# Altium footprint library Components.PcbLib: 27 footprints (part 2 of 2)
Each footprint in its own frame and in the unit in brackets; x right, y up, seen from the top. Pads: shape width x height; smd on the part's side, far side on the other; paste and mask are expansions set on the pad; w line width, h text height; cw(c..) or ccw(c..) is an arc to the next point about the centre after c.
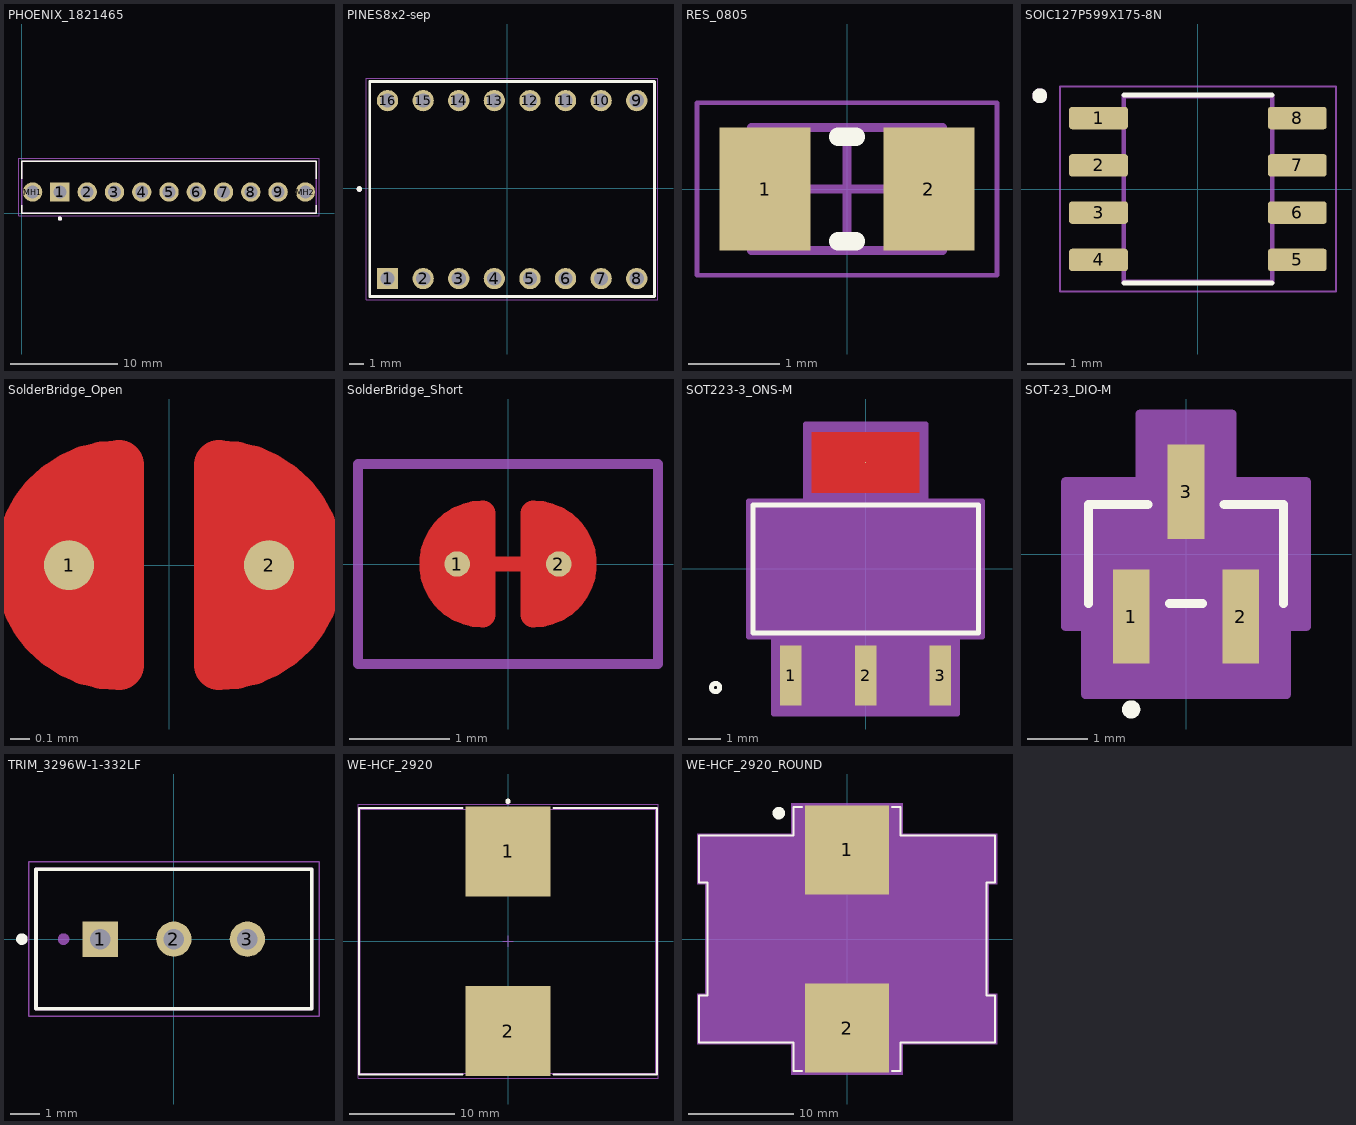
[diagram p1: the footprints below, top view; thin cyan lines are the x and y axes]

## PHOENIX_1821465 [mm]
pads (11):
  rect 1.8x1.8 / inner round 1.8 / far side rect 1.8x1.8 hole 1.2: 1(3.56,1.97)
  round 1.8 hole 1.2: 2(6.1,1.97) 3(8.64,1.97) 4(11.18,1.97) 5(13.72,1.97) 6(16.26,1.97) 7(18.8,1.97) 8(21.34,1.97) 9(23.88,1.97) MH1(1.02,1.97) MH2(26.42,1.97)
Top Overlay:
  circle w0.2: c3.56,-0.5 r0.1
  lines w0.127: 0,0.75 0,0 27.44,0 27.44,0.75 ; 0,3.19 0,4.85 27.44,4.85 27.44,3.19
Mechanical 13:
  circle w0.2: c3.56,-0.5 r0.1
  lines w0.127: 0,0 0,4.85 27.44,4.85 27.44,0 0,0
Mechanical 15:
  lines w0.05: -0.25,-0.25 27.69,-0.25 27.69,5.1 -0.25,5.1 -0.25,-0.25
3D body "1821465.step": height 7.1, standoff -2, extent 0.05,-0.025 27.5,4.825

## PINES8x2-sep [mil]
pads (16):
  rect 60x60 / inner round 60 / far side rect 60x60 hole 40: 1(-335.98,-253.15)
  round 60 hole 40: 2(-235.98,-253.15) 3(-135.98,-253.15) 4(-35.98,-253.15) 5(64.02,-253.15) 6(164.02,-253.15) 7(264.02,-253.15) 8(364.02,-253.15) 9(364.02,246.85) 10(264.02,246.85) 11(164.02,246.85) 12(64.02,246.85) 13(-35.98,246.85) 14(-135.98,246.85) 15(-235.98,246.85) 16(-335.98,246.85)
Top Overlay:
  circle w7.87: c-415.12,-1.48 r3.94
  lines w7.87: -385.98,-303.15 -385.98,300.2 414.02,300.2 414.02,-303.15 -385.98,-303.15
Mechanical 13:
  lines w3.94: -385.98,-303.15 414.02,-303.15 414.02,301.18 -385.98,301.18 -385.98,-303.15
  lines w7.87: -414.83,2.45 ccw(c-415.12,-1.48) -411.18,-1.48
Mechanical 15:
  lines w1.97: -395.83,-312.99 423.86,-312.99 423.86,310.04 -395.83,310.04 -395.83,-312.99
3D body "61300811821+%28rev1%29.stp": height 336.61, standoff -120.53, extent -394.09,198.82 425.59,297.24
3D body "61300811821+%28rev1%29.stp": height 336.61, standoff -120.53, extent -394.09,-301.18 425.59,-202.76
3D body "A4988 STEPPER MOTOR DRIVER CARRIER--3DModel-STEP-56544.STEP": height 570.58, standoff 102.58, extent -400,-300 400,300

## RES_0805 [mm] "Chip Resistor, 2-Leads, Body 2.00x1.25mm, IPC Medium Density"
height 0.6
pads (2):
  rect 1x1.35 smd: 1(-0.9,0) 2(0.9,0)
Top Overlay:
  lines w0.2: -0.1,-0.575 0.1,-0.575 ; -0.1,0.575 0.1,0.575
Top Courtyard:
  lines w0.05: -1.65,-0.95 -1.65,0.95 1.65,0.95 1.65,-0.95 -1.65,-0.95
  lines w0.1: -0.5,0 0.5,0 ; 0,-0.5 0,0.5
Top Assembly:
  lines w0.1: -1.05,-0.675 -1.05,0.675 1.05,0.675 1.05,-0.675 -1.05,-0.675
3D body: height 0.6, standoff 0, extent -0.7,-0.675 0.7,0.675
3D body: height 0.6, standoff 0, extent -1.05,-0.675 -0.7,0.675
3D body: height 0.6, standoff 0, extent 0.7,-0.675 1.05,0.675

## SOIC127P599X175-8N [mm]
pads (8):
  rrect25% 1.58x0.6 smd: 1(-2.67,1.905) 2(-2.67,0.635) 3(-2.67,-0.635) 4(-2.67,-1.905) 5(2.67,-1.905) 6(2.67,-0.635) 7(2.67,0.635) 8(2.67,1.905)
Top Overlay:
  circle w0.2: c-4.25,2.505 r0.1
  lines w0.127: -1.995,-2.525 1.995,-2.525 ; -1.995,2.525 1.995,2.525
Mechanical 13:
  circle w0.2: c-4.25,2.505 r0.1
  lines w0.127: -1.995,-2.5 -1.995,2.5 1.995,2.5 1.995,-2.5 -1.995,-2.5
Mechanical 15:
  lines w0.05: -3.71,-2.75 -3.71,2.75 3.71,2.75 3.71,-2.75 -3.71,-2.75
3D body "step_temp.STEP": height 1.75, standoff 0, extent -3,-2.45 3,2.45

## SolderBridge_Open [mil]
pads (2):
  round 10 smd mask+0: 1(-20,0) 2(20,0)
Top Layer:
  region: 10,20 21.96,18.4 29.53,10.83 29.53,-9.84 19.37,-20 10,-20
  region: -9.02,-19.51 -20.97,-17.9 -28.54,-10.33 -28.54,10.33 -18.39,20.49 -9.02,20.49
  lines w10: -10,-20 cw(c-10,0) -10,20 -10,-20 ; 10,-20 ccw(c10,0) 10,20 10,-20
Top Solder:
  circle w29: c-10,0 r11
  circle w29: c10,0 r11
  lines w10: -9.02,20.49 9.51,20.49
  lines w11: -10,-20 10,-20

## SolderBridge_Short [mil]
pads (2):
  round 10 smd mask+0: 1(-20,0) 2(20,0)
Top Layer:
  region: 10,20 21.96,18.4 29.53,10.83 29.53,-9.84 19.37,-20 10,-20
  region: -9.02,-19.51 -20.97,-17.9 -28.54,-10.33 -28.54,10.33 -18.39,20.49 -9.02,20.49
  lines w6: -10,0 10,0
  lines w10: -10,-20 cw(c-10,0) -10,20 -10,-20 ; 10,-20 ccw(c10,0) 10,20 10,-20
Top Solder:
  circle w29: c-10,0 r15
  circle w29: c10,0 r15
  lines w10: -9.02,24.49 9.51,24.49
  lines w11: -10,-24 10,-24
Top Courtyard:
  lines w3.94: -59.06,-39.37 59.06,-39.37 59.06,39.37 -59.06,39.37 -59.06,-39.37
Bottom Courtyard:
  lines w3.94: -59.06,-39.37 59.06,-39.37 59.06,39.37 -59.06,39.37 -59.06,-39.37

## SOT223-3_ONS-M [mil]
pads (4):
  rect 26x73 smd paste+0 mask+0: 1(-90.5,-129) 2(0,-129) 3(90.5,-129)
  round 1 smd: 4(0,129)
Top Layer:
  region: 65,92.5 65,165.5 -65,165.5 -65,92.5
Top Overlay:
  circle w6: c-181.5,-143.5 r5
  lines w6: -136.5,-77.5 -136.5,77.5 136.5,77.5 136.5,-77.5 -136.5,-77.5
Top Paste:
  region: 65,92.5 65,165.5 -65,165.5 -65,92.5
Top Solder:
  region: 67,74.5 67,187.5 -67,187.5 -67,74.5
Mechanical 13:
  circle w0: c-121.5,-62.5 r5
  lines w1: -131.5,-72.5 -131.5,72.5 131.5,72.5 131.5,-72.5 -131.5,-72.5 ; -101.5,-143.5 -79.5,-143.5 -79.5,-72.5 -101.5,-72.5 -101.5,-143.5 ; -63,72.5 -63,143.5 63,143.5 63,72.5 -63,72.5 ; -11,-143.5 11,-143.5 11,-72.5 -11,-72.5 -11,-143.5 ; 79.5,-143.5 101.5,-143.5 101.5,-72.5 79.5,-72.5 79.5,-143.5
Mechanical 15:
  region: -141.5,-82.5 -141.5,82.5 -73,82.5 -73,175.5 73,175.5 73,82.5 141.5,82.5 141.5,-82.5 111.5,-82.5 111.5,-175.5 -111.5,-175.5 -111.5,-82.5
  lines w6: -141.5,-82.5 -111.5,-82.5 -111.5,-175.5 111.5,-175.5 111.5,-82.5 141.5,-82.5 141.5,82.5 73,82.5 73,175.5 -73,175.5 -73,82.5 -141.5,82.5 -141.5,-82.5
3D body "SOT223-3_ONS.step": height 68.11, standoff 0, extent -131.5,-143.5 131.5,143.5

## SOT-23_DIO-M [mil]
pads (3):
  rect 24x62 smd paste+0 mask+0: 1(-36.02,-41) 2(36.02,-41) 3(0,41)
Top Overlay:
  circle w6: c-36.02,-102 r3
  lines w6: -64,-32.5 -64,32.5 -25.1,32.5 ; -10.92,-32.5 10.92,-32.5 ; 25.1,32.5 64,32.5 64,-32.5
Mechanical 13:
  circle w0: c-36.02,-17.5 r3
  lines w1: -59,-27.5 -59,27.5 59,27.5 59,-27.5 -59,-27.5 ; -46.02,-50 -26.02,-50 -26.02,-27.5 -46.02,-27.5 -46.02,-50 ; -10,27.5 -10,50 10,50 10,27.5 -10,27.5 ; 26.02,-50 46.02,-50 46.02,-27.5 26.02,-27.5 26.02,-50
Mechanical 15:
  region: -79,-47.5 -79,47.5 -30,47.5 -30,92 30,92 30,47.5 79,47.5 79,-47.5 66.02,-47.5 66.02,-92 -66.02,-92 -66.02,-47.5
  lines w6: -79,-47.5 -66.02,-47.5 -66.02,-92 66.02,-92 66.02,-47.5 79,-47.5 79,47.5 30,47.5 30,92 -30,92 -30,47.5 -79,47.5 -79,-47.5
3D body "SOT-23_DIO.step": height 45.12, standoff 0, extent -59.02,-50 59.02,50

## TRIM_3296W-1-332LF [mm]
pads (3):
  rect 1.218x1.218 / inner round 1.218 / far side rect 1.218x1.218 hole 0.71: 1(-2.54,0)
  round 1.218 hole 0.71: 2(0,0) 3(2.54,0)
Top Overlay:
  circle w0.2: c-5.25,0 r0.1
  lines w0.127: -4.765,-2.41 4.765,-2.41 4.765,2.42 -4.765,2.42 -4.765,-2.41
Mechanical 13:
  circle w0.2: c-3.81,0 r0.1
  lines w0.127: -4.765,-2.41 -4.765,2.42 4.765,2.42 4.765,-2.41 -4.765,-2.41
Mechanical 15:
  lines w0.05: -5.015,-2.66 -5.015,2.67 5.015,2.67 5.015,-2.66 -5.015,-2.66
3D body "step_temp.STEP": height 11.55, standoff -7.72, extent -4.765,-2.41 4.765,2.42

## WE-HCF_2920 [mm] "SMD High Current Inductor, body 28x25mm"
height 20.5
pads (2):
  rect 8x8.5 smd: 1(0,8.5) 2(0,-8.5)
Top Overlay:
  circle w0.25: c0,13.25 r0.125
  lines w0.2: -4.3,-12.6 -14.1,-12.6 -14.1,12.6 -4.3,12.6 ; 4.3,-12.6 14.1,-12.6 14.1,12.6 4.3,12.6
Top 3D Body:
  lines w0.1: -14,-12.5 14,-12.5 14,12.5 -14,12.5 -14,-12.5
Top Courtyard:
  lines w0.1: -14.2,-12.95 14.2,-12.95 14.2,12.95 -14.2,12.95 -14.2,-12.95
Top Assembly:
  circle w0.1: c0,10.5 r1
  lines w0.1: -14,-12.5 -14,12.5 14,12.5 14,-12.5 -14,-12.5
Top Designator:
  text ".Designator" at -3.647,-0.357 h1
Top Component Center:
  lines w0.1: -0.5,0 0.5,0 ; 0,-0.5 0,0.5
3D body "74437429203xxx.stp": height 20, standoff 0, extent -13.65,-11.548 13.65,11.548

## WE-HCF_2920_ROUND [mm]
pads (2):
  rect 8x8.5 smd paste+0 mask+0.102: 1(0,8.5) 2(0,-8.5)
Top Overlay:
  circle w0.6: c-6.5,12 r0.3
  lines w0.2: -4.3,-12.6 -5.1,-12.6 -5.1,-9.85 -14.1,-9.85 -14.1,-5.4 -13.3,-5.4 -13.3,5.4 -14.1,5.4 -14.1,9.85 -5.1,9.85 -5.1,12.6 -4.3,12.6 ; 4.3,-12.6 5.1,-12.6 5.1,-9.85 14.1,-9.85 14.1,-5.4 13.3,-5.4 13.3,5.4 14.1,5.4 14.1,9.85 5.1,9.85 5.1,12.6 4.3,12.6
Mechanical 13:
  circle w0.6: c0,3 r0.3
  lines w0.1: -14,-9.75 -14,-5.5 -13.2,-5.5 -13.2,5.5 -14,5.5 -14,9.75 -5,9.75 -5,12.5 5,12.5 5,9.75 14,9.75 14,5.5 13.2,5.5 13.2,-5.5 14,-5.5 14,-9.75 5,-9.75 5,-12.5 -5,-12.5 -5,-9.75 -14,-9.75
Mechanical 15:
  region: 5.3,10.05 14.3,10.05 14.3,5.2 13.5,5.2 13.5,-5.2 14.3,-5.2 14.3,-10.05 5.3,-10.05 5.3,-12.95 -5.3,-12.95 -5.3,-10.05 -14.3,-10.05 -14.3,-5.2 -13.5,-5.2 -13.5,5.2 -14.3,5.2 -14.3,10.05 -5.3,10.05 -5.3,12.95 5.3,12.95
3D body "Download_STP_WE-HCF-2920-Round+%28rev1%29.stp": height 20, standoff 0, extent -13.625,-11.448 13.675,11.648